# Altium footprint library LW P473 BM_LED.PcbLib: 1 footprints
Each footprint in its own frame and in the unit in brackets; x right, y up, seen from the top. Pads: shape width x height; smd on the part's side, far side on the other; paste and mask are expansions set on the pad; w line width, h text height; cw(c..) or ccw(c..) is an arc to the next point about the centre after c.
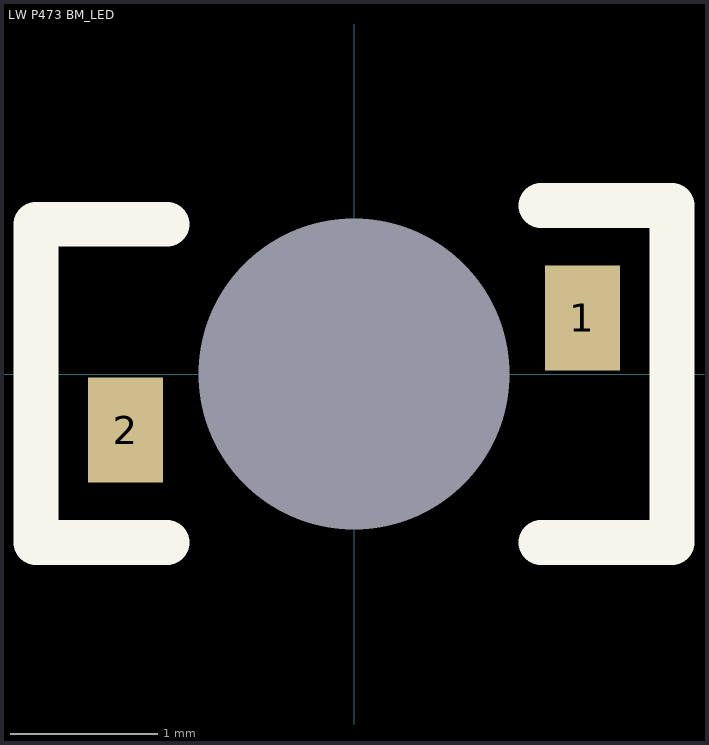
[diagram p0: the footprint, top view; thin cyan lines are the x and y axes]

## LW P473 BM_LED [mil]
pads (3):
  rect 20x28 smd: 1(61,15) 2(-61,-15)
  round 0 hole 83 unplated: MH(0,0)
Top Overlay:
  lines w12: -50,-45 -85,-45 -85,40 -50,40 ; 50,-45 85,-45 85,45 50,45